# EAGLE library part SI9110DY-T1-E3 (library Vishay)
High-Voltage Switchmode Controllers
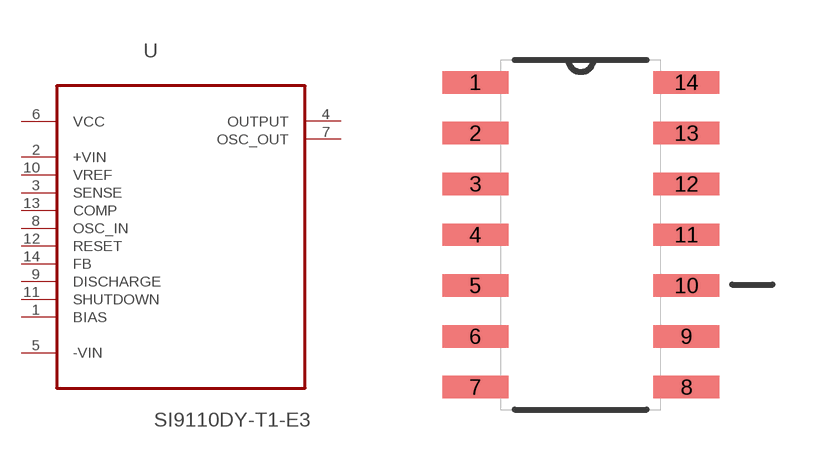
[diagram p96: symbol with the pads of SOIC127P600X175-14N; footprint SOIC127P600X175-14N]

Designator prefix U

## SI9110DY-T1-E3 (MPN: SI9110DY-T1-E3; OC_FARNELL: 1469451; OC_NEWARK: 65K2725; PACKAGE: SOIC-16; SUPPLIER: Vishay)  [SOIC127P600X175-14N]
1  BIAS  in
2  +VIN  in
3  SENSE  in
4  OUTPUT  out
5  -VIN  pwr
6  VCC  pwr
7  OSC_OUT  out
8  OSC_IN  in
9  DISCHARGE  pas
10  VREF  in
11  SHUTDOWN  in
12  RESET  in
13  COMP  in
14  FB  in

## Footprint SOIC127P600X175-14N (pad centres in mm)
smd 1.651 x 0.559: 1 -2.642,3.81; 2 -2.642,2.54; 3 -2.642,1.27; 4 -2.642,0; 5 -2.642,-1.27; 6 -2.642,-2.54; 7 -2.642,-3.81; 8 2.642,-3.81; 9 2.642,-2.54; 10 2.642,-1.27; 11 2.642,0; 12 2.642,1.27; 13 2.642,2.54; 14 2.642,3.81